# EAGLE library part LT4320IMSE#PBF (library LT4320IMSE#PBF)
Power Management Specialized - PMIC Ideal Diode Bridge Controller Source: Datasheet <https://datasheet.datasheetarchive.com/originals/distributors/Datasheets_SAMA/f9c8f44be51ba9be14d0fe4fedec3709.pdf>
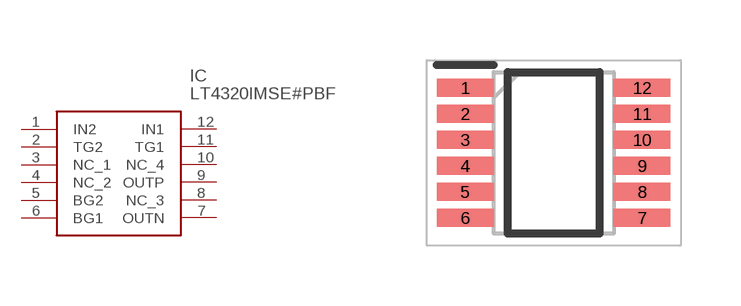
[diagram p0: symbol with the pads of SOP65P490X110-12N; footprint SOP65P490X110-12N]

Designator prefix IC

## LT4320IMSE#PBF (Description: Power Management Specialized - PMIC Ideal Diode Bridge Controller; Height: 1.1mm; Manufacturer_Name: Analog Devices; Manufacturer_Part_Number: LT4320IMSE#PBF; Mouser_Part_Number: 584-LT4320IMSE#PBF; Mouser_Price-Stock: https://www.mouser.co.uk/ProductDetail/Analog-Devices/LT4320IMSEPBF?qs=hVkxg5c3xu85qzc54VnZtw%3D%3D)  [SOP65P490X110-12N]
1  IN2  in
2  TG2
3  NC_1
4  NC_2
5  BG2
6  BG1
7  OUTN  out
8  NC_3
9  OUTP  out
10  NC_4
11  TG1
12  IN1  in

## Footprint SOP65P490X110-12N (pad centres in mm)
MSOP12
smd 1.425 x 0.45: 1 -2.212,1.625; 2 -2.212,0.975; 3 -2.212,0.325; 4 -2.212,-0.325; 5 -2.212,-0.975; 6 -2.212,-1.625; 7 2.212,-1.625; 8 2.212,-0.975; 9 2.212,-0.325; 10 2.212,0.325; 11 2.212,0.975; 12 2.212,1.625